# EAGLE library part AMP-MICROMATCH-8 (library jason-test)
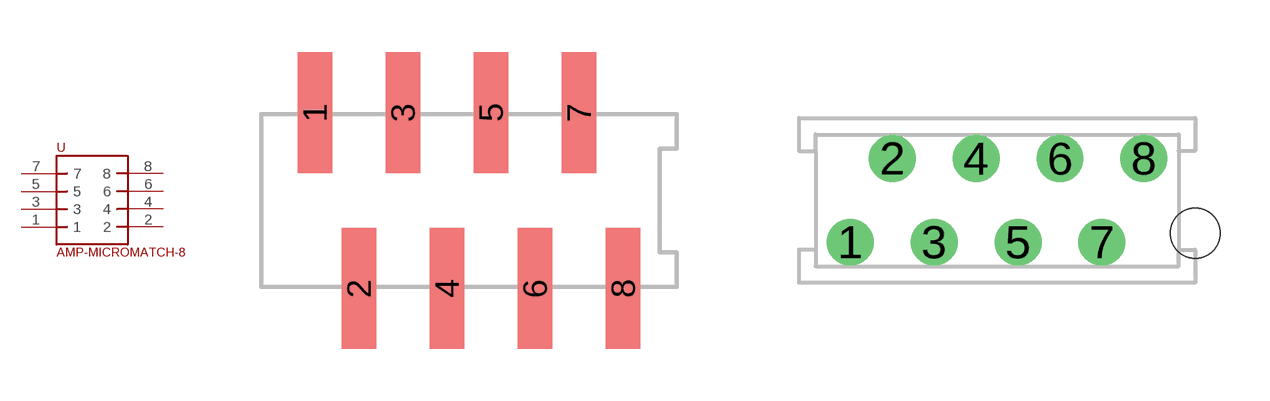
[diagram p24: symbol with the pads of AMP-188275-8; footprints AMP-188275-8, AMP-215079-8]

Designator prefix -

## AMP-MICROMATCH-8188275-SMT  [AMP-188275-8]
1  1
2  2
3  3
4  4
5  5
6  6
7  7
8  8

## AMP-MICROMATCH-8215079-TH  [AMP-215079-8]
Pads as for AMP-188275-8

## AMP-MICROMATCH-8215464-MALE  [AMP-215464-8]
Pads as for AMP-188275-8

## Footprint AMP-188275-8 (pad centres in mm)
smd 1 x 3.5: 1 -4.445,2.54; 2 -3.175,-2.54; 3 -1.905,2.54; 4 -0.635,-2.54; 5 0.635,2.54; 6 1.905,-2.54; 7 3.175,2.54; 8 4.445,-2.54

## Footprint AMP-215079-8 (pad centres in mm)
drill 0.8 pad 1.422 round: 1 -4.445,-1.27; 2 -3.175,1.27; 3 -1.905,-1.27; 4 -0.635,1.27; 5 0.635,-1.27; 6 1.905,1.27; 7 3.175,-1.27; 8 4.445,1.27
hole 1.5 at 6,-1

## Footprint AMP-215464-8 (pad centres in mm)
drill 0.8 round: 1 -4.445,-1.27; 2 -3.175,1.27; 3 -1.905,-1.27; 4 -0.635,1.27; 5 0.635,-1.27; 6 1.905,1.27; 7 3.175,-1.27; 8 4.445,1.27